# EAGLE library part J0026D21BNL (library HyTechDevices)
Pulse J0026D21BNL Modular Ethernet Connector RJ45 100 Base-TX with integrated magnetics
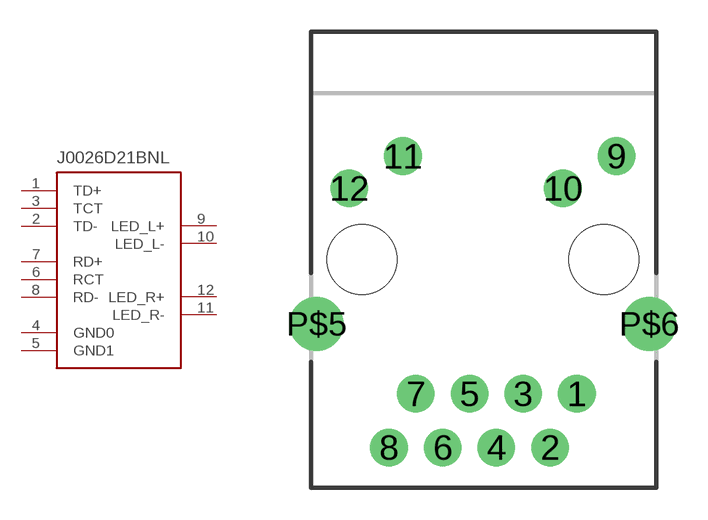
[diagram p56: symbol with the pads of J0026D21BNL; footprint J0026D21BNL]

Designator prefix -

## J0026D21BNL  [J0026D21BNL]
1  TD+
2  TD-
3  TCT
4  GND0
5  GND1
6  RCT
7  RD+
8  RD-
9  LED_L+
10  LED_L-
11  LED_R-
12  LED_R+

## Footprint J0026D21BNL (pad centres in mm)
Based on package by Adafruit RJ45 (Ethernet) Connector with LEDs and Built-In Transformer Model: J0026D21BNL Digikey: 553-1349-ND
drill 0.991 pad 1.778: 1 4.445,-6.35; 2 3.175,-8.89; 3 1.905,-6.35; 4 0.635,-8.89; 5 -0.635,-6.35; 6 -1.905,-8.89; 7 -3.175,-6.35; 8 -4.445,-8.89
drill 1.118 pad 1.778: 9 6.325,4.9; 10 3.785,3.38; 11 -3.785,4.9; 12 -6.325,3.38
drill 1.702: P$5 -7.875,-3.05; P$6 7.875,-3.05
hole 3.302 at -5.715,0
hole 3.302 at 5.715,0